# EAGLE library part TLV274 (library audioint)
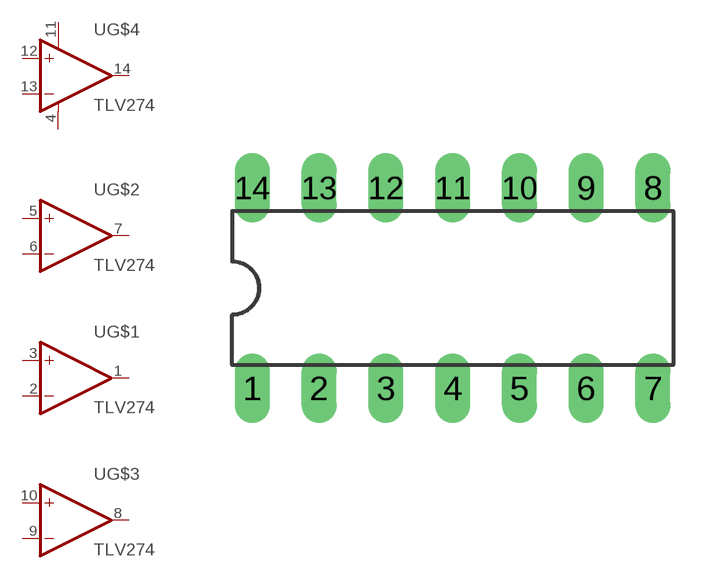
[diagram p0: symbol with the pads of 14-PDIP; footprint 14-PDIP]

Designator prefix -; gates G$1=OP-AMP G$2=OP-AMP G$3=OP-AMP G$4=OP-AMP-VCC

## TLV274  [14-PDIP]
1  G$1:OUT  out
2  G$1:-IN  in
3  G$1:+IN  in
4  G$4:V+  pwr
5  G$2:+IN  in
6  G$2:-IN  in
7  G$2:OUT  out
8  G$3:OUT  out
9  G$3:-IN  in
10  G$3:+IN  in
11  G$4:V-  pwr
12  G$4:+IN  in
13  G$4:-IN  in
14  G$4:OUT  out

## Footprint 14-PDIP (pad centres in mm)
drill 0.813 long: 1 -7.62,-3.81; 2 -5.08,-3.81; 3 -2.54,-3.81; 4 0,-3.81; 5 2.54,-3.81; 6 5.08,-3.81; 7 7.62,-3.81; 8 7.62,3.81; 9 5.08,3.81; 10 2.54,3.81; 11 0,3.81; 12 -2.54,3.81; 13 -5.08,3.81; 14 -7.62,3.81